# Altium footprint library ti-import.PcbLib: 50 footprints (part 3 of 4)
Each footprint in its own frame and in the unit in brackets; x right, y up, seen from the top. Pads: shape width x height; smd on the part's side, far side on the other; paste and mask are expansions set on the pad; w line width, h text height; cw(c..) or ccw(c..) is an arc to the next point about the centre after c.
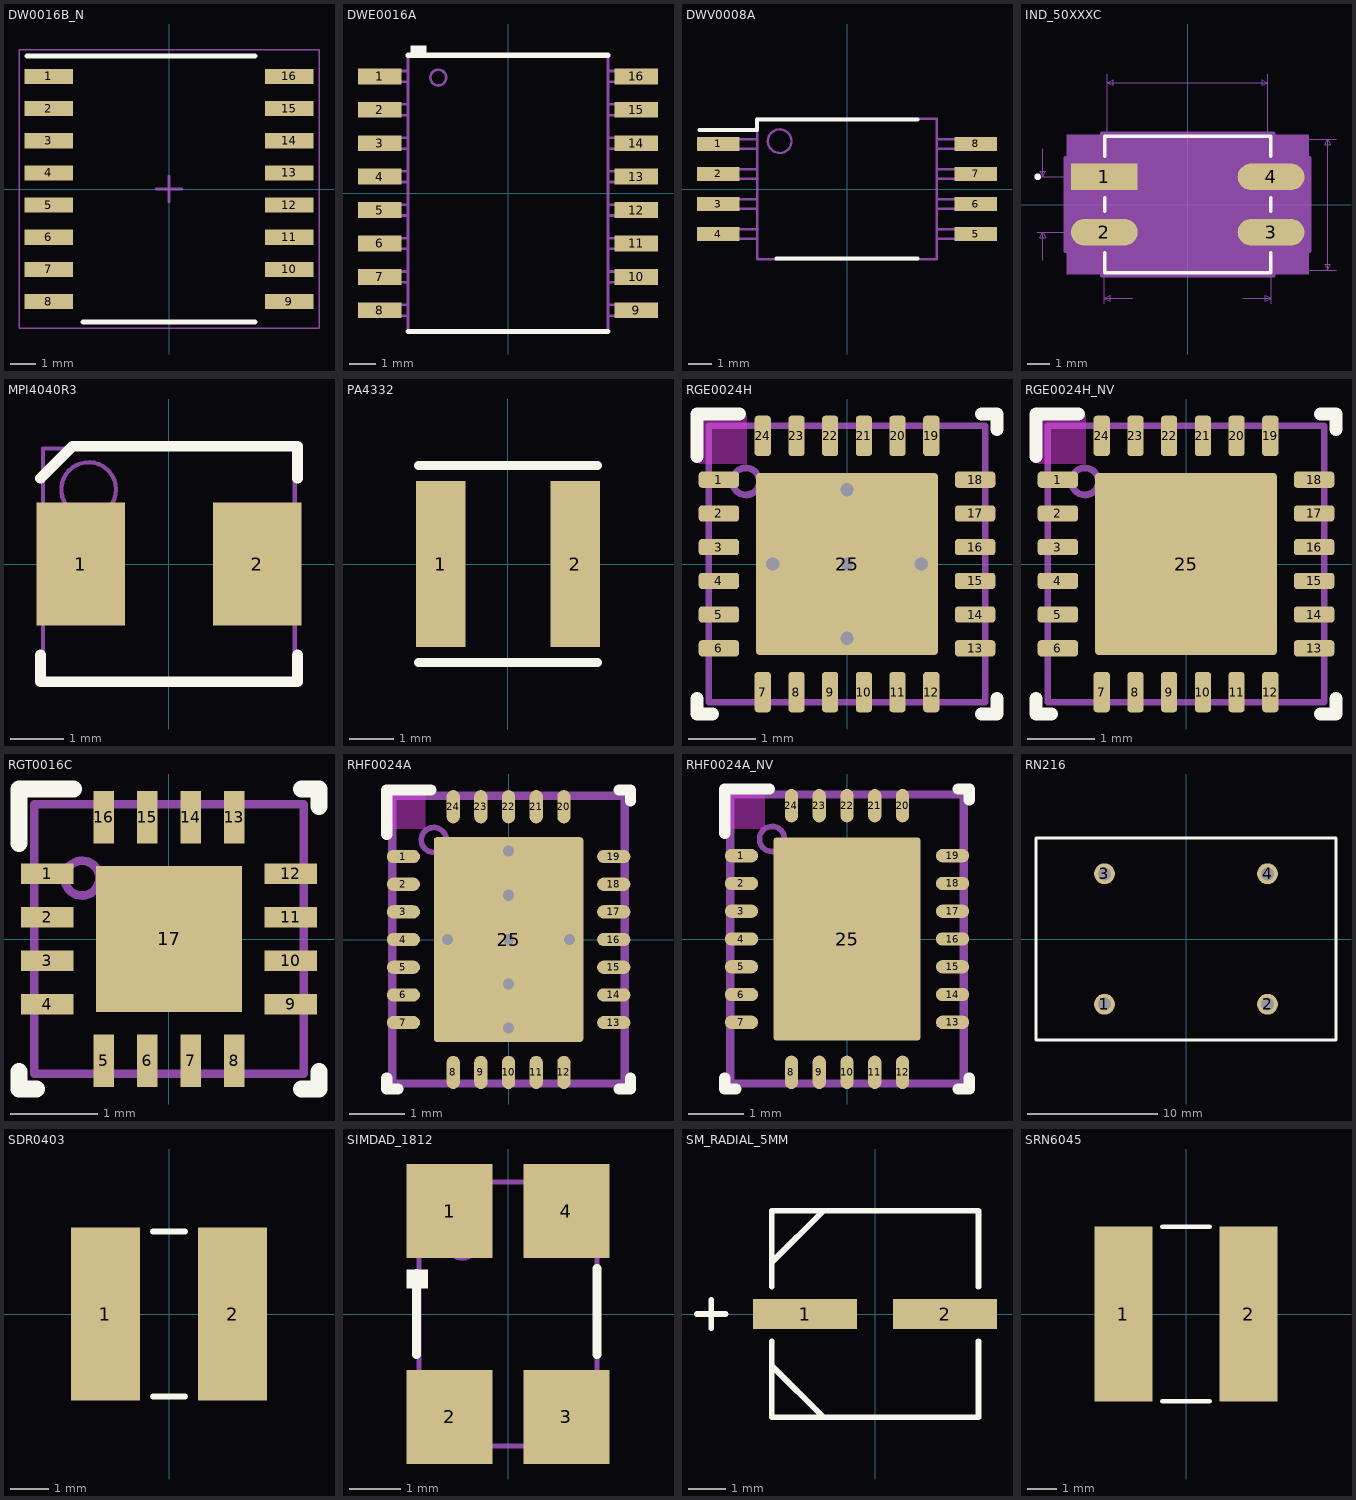
[diagram p2: the footprints below, top view; thin cyan lines are the x and y axes]

## DW0016B_N [mm]
pads (16):
  rect 1.9x0.6 smd paste+0 mask+0.051: 1(-4.75,4.445) 2(-4.75,3.175) 3(-4.75,1.905) 4(-4.75,0.635) 5(-4.75,-0.635) 6(-4.75,-1.905) 7(-4.75,-3.175) 8(-4.75,-4.445) 9(4.75,-4.445) 10(4.75,-3.175) 11(4.75,-1.905) 12(4.75,-0.635) 13(4.75,0.635) 14(4.75,1.905) 15(4.75,3.175) 16(4.75,4.445)
Top Overlay:
  lines w0.2: -5.6,5.25 3.4,5.25 ; -3.4,-5.25 3.4,-5.25
Mechanical 15:
  lines w0.05: -5.925,-5.5 5.925,-5.5 5.925,5.5 -5.925,5.5 -5.925,-5.5
  lines w0.1: -0.5,0 0.5,0 ; 0,-0.5 0,0.5
3D body "DW0016B.stp": height 2.59, standoff 0, extent -5.167,-5.15 5.168,5.15

## DWE0016A [mm]
pads (16):
  rect 1.65x0.6 smd paste+0 mask+0: 1(-4.875,4.445) 2(-4.875,3.175) 3(-4.875,1.905) 4(-4.875,0.635) 5(-4.875,-0.635) 6(-4.875,-1.905) 7(-4.875,-3.175) 8(-4.875,-4.445) 9(4.875,-4.445) 10(4.875,-3.175) 11(4.875,-1.905) 12(4.875,-0.635) 13(4.875,0.635) 14(4.875,1.905) 15(4.875,3.175) 16(4.875,4.445)
Top Overlay:
  region: -3.7,5.6 -3.7,5.35 -3.1,5.35 -3.1,5.6
  lines w0.2: -3.8,-5.25 3.8,-5.25 ; -3.8,5.25 3.8,5.25
Mechanical 13:
  circle w0.1: c-2.65,4.4 r0.3
  lines w0.1: -3.8,-4.65 -5.3,-4.65 -5.3,-4.24 -3.8,-4.24 ; -3.8,-3.38 -5.3,-3.38 -5.3,-2.97 -3.8,-2.97 ; -3.8,-2.11 -5.3,-2.11 -5.3,-1.7 -3.8,-1.7 ; -3.8,-0.84 -5.3,-0.84 -5.3,-0.43 -3.8,-0.43 ; -3.8,0.43 -5.3,0.43 -5.3,0.84 -3.8,0.84 ; -3.8,1.7 -5.3,1.7 -5.3,2.11 -3.8,2.11 ; -3.8,2.97 -5.3,2.97 -5.3,3.38 -3.8,3.38 ; -3.8,4.24 -5.3,4.24 -5.3,4.65 -3.8,4.65 ; 3.8,-4.65 5.3,-4.65 5.3,-4.24 3.8,-4.24 ; 3.8,-3.38 5.3,-3.38 5.3,-2.97 3.8,-2.97 ; 3.8,-2.11 5.3,-2.11 5.3,-1.7 3.8,-1.7 ; 3.8,-0.84 5.3,-0.84 5.3,-0.43 3.8,-0.43 ; 3.8,0.43 5.3,0.43 5.3,0.84 3.8,0.84 ; 3.8,1.7 5.3,1.7 5.3,2.11 3.8,2.11 ; 3.8,2.97 5.3,2.97 5.3,3.38 3.8,3.38 ; 3.8,4.24 5.3,4.24 5.3,4.65 3.8,4.65 ; -3.8,-5.25 3.8,-5.25 3.8,5.25 -3.8,5.25 -3.8,-5.25
3D body "DWE0016A.stp": height 2.59, standoff 0, extent -5.167,-5.15 5.167,5.15

## DWV0008A [mm]
pads (8):
  rect 1.8x0.6 smd paste+0 mask+0: 1(-5.45,1.905) 2(-5.45,0.635) 3(-5.45,-0.635) 4(-5.45,-1.905) 5(5.45,-1.905) 6(5.45,-0.635) 7(5.45,0.635) 8(5.45,1.905)
Top Overlay:
  lines w0.17: -6.25,2.5 -3.8,2.5 -3.8,2.95 2.975,2.95 ; -2.975,-2.95 2.975,-2.95
Mechanical 13:
  circle w0.1: c-2.85,2.025 r0.5
  lines w0.1: -3.805,-2.105 -5.8,-2.105 -5.8,-1.705 -3.805,-1.705 ; -3.805,-0.835 -5.8,-0.835 -5.8,-0.435 -3.805,-0.435 ; -3.805,0.435 -5.8,0.435 -5.8,0.835 -3.805,0.835 ; -3.805,1.705 -5.8,1.705 -5.8,2.105 -3.805,2.105 ; 3.805,-2.105 5.8,-2.105 5.8,-1.705 3.805,-1.705 ; 3.805,-0.835 5.8,-0.835 5.8,-0.435 3.805,-0.435 ; 3.805,0.435 5.8,0.435 5.8,0.835 3.805,0.835 ; 3.805,1.705 5.8,1.705 5.8,2.105 3.805,2.105 ; -3.8,-2.975 3.8,-2.975 3.8,2.975 -3.8,2.975 -3.8,-2.975
3D body "DWV0008A.stp": height 2.67, standoff -0.03, extent -5.768,-2.925 5.768,2.925

## IND_50XXXC [mil]
pads (4):
  rect 118x47 smd paste+0 mask+0: 1(-147.5,49)
  oval 118x47 smd paste+0 mask+0: 2(-147.5,-49) 3(147.5,-49) 4(147.5,49)
Top Overlay:
  circle w6: c-265.5,49 r3
  lines w6: -147,-85.6 -147,-121 147,-121 147,-85.6 ; -147,-12.4 -147,12.4 ; -147,85.6 -147,121 147,121 147,85.6 ; 147,-12.4 147,12.4
Mechanical 5:
  region: 214,-123.5 -214,-123.5 -214,123.5 214,123.5
Mechanical 7:
  lines w1: -266.5,-49 -147.5,-49 -147.5,-176 ; -266.5,49 -147.5,49 ; -256.5,-99 -256.5,-49 ; -256.5,99 -256.5,49 ; -142,116 -142,231 ; -97.5,-166 -147.5,-166 ; 97.5,-166 147.5,-166 ; 142,-116 262.5,-116 ; 142,231 142,116 262.5,116 ; 147.5,-176 147.5,-49 ; -256.5,-49 -261.5,-59 -251.5,-59 -256.5,-49 ; -256.5,49 -261.5,59 -251.5,59 -256.5,49 ; -147.5,-166 -137.5,-161 -137.5,-171 -147.5,-166 ; -142,216 -132,211 -132,221 -142,216 ; -142,216 142,216 ; 142,216 132,211 132,221 142,216 ; 147.5,-166 137.5,-161 137.5,-171 147.5,-166 ; 247.5,-116 252.5,-106 242.5,-106 247.5,-116 ; 247.5,-116 247.5,116 ; 247.5,116 252.5,106 242.5,106 247.5,116
  text "0.232in/5.893mm" at 267.5,-12.5 h25
  text "0.284in/7.214mm" at -93.75,236 h25
  text ".295in/7.493mm" at -87.5,-191 h25
  text ".098in/2.489mm" at -441.5,-12.5 h25
  text "Alt 2 Padstyle: b229_152h76" at -337.5,-616 h50
  text "Alt 1 Padstyle: b152_229h76" at -337.5,-556 h50
  text "Pin 1 Padstyle: r300_119" at -300,-376 h50
  text "Default Padstyle: b300_119" at -325,-316 h50
Mechanical 13:
  circle w0: c-132,49 r3
  lines w0: -12,116 ccw(c0,116) 12,116
  lines w1: -142,-116 -142,116 142,116 142,-116 -142,-116
Mechanical 15:
  region: -152,-82.5 -216.5,-82.5 -216.5,82.5 -152,82.5 -152,126 152,126 152,82.5 216.5,82.5 216.5,-82.5 152,-82.5 152,-126 -152,-126
  lines w6: -216.5,-82.5 -152,-82.5 -152,-126 152,-126 152,-82.5 216.5,-82.5 216.5,82.5 152,82.5 152,126 -152,126 -152,82.5 -216.5,82.5 -216.5,-82.5
3D body: height 10, standoff 0, extent 0,0 10,10
3D body "mps_mag_5000_smt_a.STEP": height 158.66, standoff 0, extent -181.1,-116.14 181.1,116.14

## MPI4040R3 [mm] "Coiltronics"
height 1.85
pads (2):
  rect 1.65x2.3 smd: 1(-1.65,0) 2(1.65,0)
Top Overlay:
  lines w0.2: -2.4,-1.7 -2.4,-2.2 2.4,-2.2 2.4,-1.7 ; -2.4,1.6 -1.8,2.2 -1.5,2.2 2.4,2.2 2.4,1.6
Mechanical 5:
  circle w0.08: c-1.5,1.39 r0.51
  lines w0.08: -2.35,-2.155 -2.35,2.155 2.35,2.155 2.35,-2.155 -2.35,-2.155
  text ".Designator" at 0.694,0.332 h0.8
3D body: height 1.85, standoff 0, extent -2.349,-2.154 2.349,2.154
3D body: height 1.86, standoff 1, extent -2.009,0.881 -0.991,1.899

## PA4332 [mm]
pads (2):
  rect 1.1x3.7 smd paste+0 mask+0.051: 1(-1.5,0) 2(1.5,0)
Top Overlay:
  lines w0.2: -2,-2.2 2,-2.2 ; -2,2.2 2,2.2
3D body: height 2, standoff 1.3, extent -2.1,-2.1 2.1,2.1
3D body: height 0.7, standoff 0, extent -2.1,-2.1 2.1,2.1
3D body: height 1.75, standoff 0.25, extent -2,-2 2,2

## RGE0024H [mm]
pads (25):
  rrect41% 0.6x0.24 smd paste+0 mask+0.051: 1(-1.9,1.25) 2(-1.9,0.75) 3(-1.9,0.25) 4(-1.9,-0.25) 5(-1.9,-0.75) 6(-1.9,-1.25) 13(1.9,-1.25) 14(1.9,-0.75) 15(1.9,-0.25) 16(1.9,0.25) 17(1.9,0.75) 18(1.9,1.25)
  rrect41% 0.24x0.6 smd paste+0 mask+0.051: 7(-1.25,-1.9) 8(-0.75,-1.9) 9(-0.25,-1.9) 10(0.25,-1.9) 11(0.75,-1.9) 12(1.25,-1.9) 19(1.25,1.9) 20(0.75,1.9) 21(0.25,1.9) 22(-0.25,1.9) 23(-0.75,1.9) 24(-1.25,1.9)
  rrect4% 2.7x2.7 smd paste-1.337 mask+0.051: 25(0,0)
via 1.1,0 diameter 0.5 hole 0.2
via 0,-1.1 diameter 0.5 hole 0.2
via -1.1,0 diameter 0.5 hole 0.2
via 0,1.1 diameter 0.5 hole 0.2
via 0,0 diameter 0.5 hole 0.2
Top Layer keep-out:
  rectangle: -2.2,1.48 -1.48,2.2
Top Overlay:
  lines w0.2: -2.225,-2 -2.225,-2.225 -2,-2.225 ; -2.225,1.6 -2.225,2.225 -1.6,2.225 ; 2,-2.225 2.225,-2.225 2.225,-2 ; 2,2.225 2.225,2.225 2.225,2
Top Paste:
  region: 0.101,0.138 0.1,0.148 0.1,1.242 0.101,1.252 0.104,1.261 0.108,1.269 0.114,1.276 0.121,1.282 0.129,1.286 0.138,1.289 0.148,1.29 1.242,1.29 1.252,1.289 1.261,1.286 1.269,1.282 1.276,1.276 1.282,1.269 1.286,1.261 1.289,1.252 1.29,1.242 1.29,0.148 1.289,0.138 1.286,0.129 1.282,0.121 1.276,0.114 1.269,0.108 1.261,0.104 1.252,0.101 1.242,0.1 0.148,0.1 0.138,0.101 0.129,0.104 0.121,0.108 0.114,0.114 0.108,0.121 0.104,0.129
  region: -0.101,1.252 -0.1,1.242 -0.1,0.148 -0.101,0.138 -0.104,0.129 -0.108,0.121 -0.114,0.114 -0.121,0.108 -0.129,0.104 -0.138,0.101 -0.148,0.1 -1.242,0.1 -1.252,0.101 -1.261,0.104 -1.269,0.108 -1.276,0.114 -1.282,0.121 -1.286,0.129 -1.289,0.138 -1.29,0.148 -1.29,1.242 -1.289,1.252 -1.286,1.261 -1.282,1.269 -1.276,1.276 -1.269,1.282 -1.261,1.286 -1.252,1.289 -1.242,1.29 -0.148,1.29 -0.138,1.289 -0.129,1.286 -0.121,1.282 -0.114,1.276 -0.108,1.269 -0.104,1.261
  region: -0.101,-0.138 -0.1,-0.148 -0.1,-1.242 -0.101,-1.252 -0.104,-1.261 -0.108,-1.269 -0.114,-1.276 -0.121,-1.282 -0.129,-1.286 -0.138,-1.289 -0.148,-1.29 -1.242,-1.29 -1.252,-1.289 -1.261,-1.286 -1.269,-1.282 -1.276,-1.276 -1.282,-1.269 -1.286,-1.261 -1.289,-1.252 -1.29,-1.242 -1.29,-0.148 -1.289,-0.138 -1.286,-0.129 -1.282,-0.121 -1.276,-0.114 -1.269,-0.108 -1.261,-0.104 -1.252,-0.101 -1.242,-0.1 -0.148,-0.1 -0.138,-0.101 -0.129,-0.104 -0.121,-0.108 -0.114,-0.114 -0.108,-0.121 -0.104,-0.129
  region: 0.101,-1.252 0.1,-1.242 0.1,-0.148 0.101,-0.138 0.104,-0.129 0.108,-0.121 0.114,-0.114 0.121,-0.108 0.129,-0.104 0.138,-0.101 0.148,-0.1 1.242,-0.1 1.252,-0.101 1.261,-0.104 1.269,-0.108 1.276,-0.114 1.282,-0.121 1.286,-0.129 1.289,-0.138 1.29,-0.148 1.29,-1.242 1.289,-1.252 1.286,-1.261 1.282,-1.269 1.276,-1.276 1.269,-1.282 1.261,-1.286 1.252,-1.289 1.242,-1.29 0.148,-1.29 0.138,-1.289 0.129,-1.286 0.121,-1.282 0.114,-1.276 0.108,-1.269 0.104,-1.261
Mechanical 13:
  circle w0.1: c-1.5,1.225 r0.2
  lines w0.1: -2.05,-2.05 2.05,-2.05 2.05,2.05 -2.05,2.05 -2.05,-2.05
3D body "RGE0024H.stp": height 1, standoff 0, extent -2,-2 2,2

## RGE0024H_NV [mm]
pads (25):
  rrect41% 0.6x0.24 smd paste+0 mask+0.051: 1(-1.9,1.25) 2(-1.9,0.75) 3(-1.9,0.25) 4(-1.9,-0.25) 5(-1.9,-0.75) 6(-1.9,-1.25) 13(1.9,-1.25) 14(1.9,-0.75) 15(1.9,-0.25) 16(1.9,0.25) 17(1.9,0.75) 18(1.9,1.25)
  rrect41% 0.24x0.6 smd paste+0 mask+0.051: 7(-1.25,-1.9) 8(-0.75,-1.9) 9(-0.25,-1.9) 10(0.25,-1.9) 11(0.75,-1.9) 12(1.25,-1.9) 19(1.25,1.9) 20(0.75,1.9) 21(0.25,1.9) 22(-0.25,1.9) 23(-0.75,1.9) 24(-1.25,1.9)
  rrect4% 2.7x2.7 smd paste-1.337 mask+0.051: 25(0,0)
Top Layer keep-out:
  rectangle: -2.2,1.48 -1.48,2.2
Top Overlay:
  lines w0.2: -2.225,-2 -2.225,-2.225 -2,-2.225 ; -2.225,1.6 -2.225,2.225 -1.6,2.225 ; 2,-2.225 2.225,-2.225 2.225,-2 ; 2,2.225 2.225,2.225 2.225,2
Top Paste:
  region: 0.101,0.138 0.1,0.148 0.1,1.242 0.101,1.252 0.104,1.261 0.108,1.269 0.114,1.276 0.121,1.282 0.129,1.286 0.138,1.289 0.148,1.29 1.242,1.29 1.252,1.289 1.261,1.286 1.269,1.282 1.276,1.276 1.282,1.269 1.286,1.261 1.289,1.252 1.29,1.242 1.29,0.148 1.289,0.138 1.286,0.129 1.282,0.121 1.276,0.114 1.269,0.108 1.261,0.104 1.252,0.101 1.242,0.1 0.148,0.1 0.138,0.101 0.129,0.104 0.121,0.108 0.114,0.114 0.108,0.121 0.104,0.129
  region: -0.101,1.252 -0.1,1.242 -0.1,0.148 -0.101,0.138 -0.104,0.129 -0.108,0.121 -0.114,0.114 -0.121,0.108 -0.129,0.104 -0.138,0.101 -0.148,0.1 -1.242,0.1 -1.252,0.101 -1.261,0.104 -1.269,0.108 -1.276,0.114 -1.282,0.121 -1.286,0.129 -1.289,0.138 -1.29,0.148 -1.29,1.242 -1.289,1.252 -1.286,1.261 -1.282,1.269 -1.276,1.276 -1.269,1.282 -1.261,1.286 -1.252,1.289 -1.242,1.29 -0.148,1.29 -0.138,1.289 -0.129,1.286 -0.121,1.282 -0.114,1.276 -0.108,1.269 -0.104,1.261
  region: -0.101,-0.138 -0.1,-0.148 -0.1,-1.242 -0.101,-1.252 -0.104,-1.261 -0.108,-1.269 -0.114,-1.276 -0.121,-1.282 -0.129,-1.286 -0.138,-1.289 -0.148,-1.29 -1.242,-1.29 -1.252,-1.289 -1.261,-1.286 -1.269,-1.282 -1.276,-1.276 -1.282,-1.269 -1.286,-1.261 -1.289,-1.252 -1.29,-1.242 -1.29,-0.148 -1.289,-0.138 -1.286,-0.129 -1.282,-0.121 -1.276,-0.114 -1.269,-0.108 -1.261,-0.104 -1.252,-0.101 -1.242,-0.1 -0.148,-0.1 -0.138,-0.101 -0.129,-0.104 -0.121,-0.108 -0.114,-0.114 -0.108,-0.121 -0.104,-0.129
  region: 0.101,-1.252 0.1,-1.242 0.1,-0.148 0.101,-0.138 0.104,-0.129 0.108,-0.121 0.114,-0.114 0.121,-0.108 0.129,-0.104 0.138,-0.101 0.148,-0.1 1.242,-0.1 1.252,-0.101 1.261,-0.104 1.269,-0.108 1.276,-0.114 1.282,-0.121 1.286,-0.129 1.289,-0.138 1.29,-0.148 1.29,-1.242 1.289,-1.252 1.286,-1.261 1.282,-1.269 1.276,-1.276 1.269,-1.282 1.261,-1.286 1.252,-1.289 1.242,-1.29 0.148,-1.29 0.138,-1.289 0.129,-1.286 0.121,-1.282 0.114,-1.276 0.108,-1.269 0.104,-1.261
Mechanical 13:
  circle w0.1: c-1.5,1.225 r0.2
  lines w0.1: -2.05,-2.05 2.05,-2.05 2.05,2.05 -2.05,2.05 -2.05,-2.05
3D body "RGE0024H.stp": height 1, standoff 0, extent -2,-2 2,2

## RGT0016C [mm]
pads (17):
  rect 0.6x0.24 smd paste+0 mask+0.051: 1(-1.4,0.75) 2(-1.4,0.25) 3(-1.4,-0.25) 4(-1.4,-0.75) 9(1.4,-0.75) 10(1.4,-0.25) 11(1.4,0.25) 12(1.4,0.75)
  rect 0.24x0.6 smd paste+0 mask+0.051: 5(-0.75,-1.4) 6(-0.25,-1.4) 7(0.25,-1.4) 8(0.75,-1.4) 13(0.75,1.4) 14(0.25,1.4) 15(-0.25,1.4) 16(-0.75,1.4)
  rect 1.68x1.68 smd paste-0.827 mask+0.051: 17(0,0)
Top Overlay:
  lines w0.2: -1.725,-1.525 -1.725,-1.725 -1.525,-1.725 ; -1.725,1.1 -1.725,1.725 -1.1,1.725 ; 1.525,-1.725 1.725,-1.725 1.725,-1.525 ; 1.525,1.725 1.725,1.725 1.725,1.525
Top Paste:
  region: -0.774,-0.738 -0.775,-0.728 -0.775,0.729 -0.774,0.738 -0.771,0.746 -0.767,0.754 -0.761,0.761 -0.754,0.767 -0.746,0.771 -0.738,0.774 -0.728,0.775 0.729,0.775 0.738,0.774 0.746,0.771 0.754,0.767 0.761,0.761 0.767,0.754 0.771,0.746 0.774,0.738 0.775,0.729 0.775,-0.728 0.774,-0.738 0.771,-0.746 0.767,-0.754 0.761,-0.761 0.754,-0.767 0.746,-0.771 0.738,-0.774 0.729,-0.775 -0.728,-0.775 -0.738,-0.774 -0.746,-0.771 -0.754,-0.767 -0.761,-0.761 -0.767,-0.754 -0.771,-0.746
Mechanical 13:
  circle w0.1: c-1,0.7 r0.2
  lines w0.1: -1.55,-1.55 1.55,-1.55 1.55,1.55 -1.55,1.55 -1.55,-1.55
3D body "RGT0016C.stp": height 1, standoff 0, extent -1.5,-1.5 1.5,1.5

## RHF0024A [mm]
pads (29):
  oval 0.6x0.24 smd paste+0 mask+0.051: 1(-1.9,1.5) 2(-1.9,1) 3(-1.9,0.5) 4(-1.9,0) 5(-1.9,-0.5) 6(-1.9,-1) 7(-1.9,-1.5) 13(1.9,-1.5) 14(1.9,-1) 15(1.9,-0.5) 16(1.9,0) 17(1.9,0.5) 18(1.9,1) 19(1.9,1.5)
  oval 0.24x0.6 smd paste+0 mask+0.051: 8(-1,-2.4) 9(-0.5,-2.4) 10(0,-2.4) 11(0.5,-2.4) 12(1,-2.4) 20(1,2.4) 21(0.5,2.4) 22(0,2.4) 23(-0.5,2.4) 24(-1,2.4)
  rrect4% 2.7x3.7 smd paste-1.837 mask+0.051: 25(0,0)
  rrect14% 1.118x1.584 on Top Paste: ""(-0.659,-0.892) ""(-0.659,0.892) ""(0.659,-0.892) ""(0.659,0.892)
via 1.1,0 diameter 0.5 hole 0.2
via 0,-1.6 diameter 0.5 hole 0.2
via 0,-0.8 diameter 0.5 hole 0.2
via -1.1,0 diameter 0.5 hole 0.2
via 0,1.6 diameter 0.5 hole 0.2
via 0,0.8 diameter 0.5 hole 0.2
via 0,0 diameter 0.5 hole 0.2
Top Layer keep-out:
  rectangle: -2.22,2 -1.5,2.72
Top Overlay:
  lines w0.2: -2.2,-2.5 -2.2,-2.7 -2,-2.7 ; -2.2,1.9 -2.2,2.7 -1.4,2.7 ; 2,-2.7 2.2,-2.7 2.2,-2.5 ; 2,2.7 2.2,2.7 2.2,2.5
Mechanical 13:
  circle w0.1: c-1.35,1.8 r0.225
  lines w0.1: -2.075,-2.575 -2.075,2.575 2.075,2.575 2.075,-2.575 -2.075,-2.575
Mechanical 15:
  lines w0.05: -2.15,-2.65 2.15,-2.65 2.15,2.65 -2.15,2.65 -2.15,-2.65
  lines w0.1: -0.5,0 0.5,0 ; 0,-0.5 0,0.5
3D body "RHF0024A.stp": height 1, standoff 0, extent -2,-2.5 2,2.5

## RHF0024A_NV [mm]
pads (25):
  oval 0.6x0.24 smd paste+0 mask+0.051: 1(-1.9,1.5) 2(-1.9,1) 3(-1.9,0.5) 4(-1.9,0) 5(-1.9,-0.5) 6(-1.9,-1) 7(-1.9,-1.5) 13(1.9,-1.5) 14(1.9,-1) 15(1.9,-0.5) 16(1.9,0) 17(1.9,0.5) 18(1.9,1) 19(1.9,1.5)
  oval 0.24x0.6 smd paste+0 mask+0.051: 8(-1,-2.4) 9(-0.5,-2.4) 10(0,-2.4) 11(0.5,-2.4) 12(1,-2.4) 20(1,2.4) 21(0.5,2.4) 22(0,2.4) 23(-0.5,2.4) 24(-1,2.4)
  rrect4% 2.65x3.65 smd paste-1.812 mask+0.051: 25(0,0)
Top Layer keep-out:
  rectangle: -2.2,1.98 -1.48,2.7
Top Overlay:
  lines w0.2: -2.2,-2.5 -2.2,-2.7 -2,-2.7 ; -2.2,1.9 -2.2,2.7 -1.4,2.7 ; 2,-2.7 2.2,-2.7 2.2,-2.5 ; 2,2.7 2.2,2.7 2.2,2.5
Top Paste:
  drawing of 6 lines, arcs and shapes, not listed
Mechanical 13:
  circle w0.1: c-1.35,1.8 r0.225
  lines w0.1: -2.075,-2.575 -2.075,2.575 2.075,2.575 2.075,-2.575 -2.075,-2.575
Mechanical 15:
  lines w0.05: -2.15,-2.65 2.15,-2.65 2.15,2.65 -2.15,2.65 -2.15,-2.65
  lines w0.1: -0.5,0 0.5,0 ; 0,-0.5 0,0.5
3D body "RHF0024A.stp": height 1, standoff 0, extent -2,-2.5 2,2.5

## RN216 [mm]
height 25
pads (4):
  round 1.6 hole 1 paste+0: 1(-6.25,-5) 2(6.25,-5) 3(-6.25,5) 4(6.25,5)
Top Overlay:
  lines w0.25: -11.5,-7.75 11.5,-7.75 11.5,7.75 -11.5,7.75 -11.5,-7.75
3D body: height 25, standoff 0, extent -11.5,-7.7 11.5,7.747
3D body: height 4.4, standoff 0, extent -11.43,7.747 -11.43,7.747

## SDR0403 [mil]
pads (2):
  rect 71x177 smd: 1(-65,0) 2(65,0)
Top Overlay:
  lines w6: -16.4,-84.5 16.4,-84.5 ; -16.4,84.5 16.4,84.5
3D body "SDR0403.stp": height 150, standoff 0, extent -106.5,-94.5 106.5,94.5

## SIMDAD_1812 [mm] "EPCOS"
height 3
pads (4):
  rect 1.7x1.85 smd: 1(-1.15,2.025) 2(-1.15,-2.025) 3(1.15,-2.025) 4(1.15,2.025)
Top Overlay:
  rectangle: -2,0.5 -1.575,0.875
  lines w0.17: -1.8,-0.8 -1.8,0.8 ; 1.75,-0.8 1.75,0.9
Mechanical 5:
  circle w0.1: c-0.9,1.4 r0.3
  lines w0.1: -1.75,-2.6 1.75,-2.6 1.75,2.6 -1.75,2.6 -1.75,-2.6
  text ".Designator" at -0.459,0.734 h0.9
3D body: height 3.01, standoff 2, extent -1.199,1.101 -0.601,1.699
3D body: height 3, standoff 0, extent -1.749,-2.599 1.749,2.599

## SM_RADIAL_5MM [mil]
pads (2):
  rect 109x31 smd: 1(-73.5,0) 2(73.5,0)
Top Overlay:
  lines w6: -187,0 -157,0 ; -172,-15 -172,15 ; -108.5,-54.25 -54.25,-108.5 ; -108.5,-28.6 -108.5,-108.5 108.5,-108.5 108.5,-28.6 ; -108.5,28.6 -108.5,108.5 108.5,108.5 108.5,28.6 ; -108.5,54.25 -54.25,108.5
3D body "SM_RADIAL_5MM.stp": height 238, standoff 0, extent -122,-108.5 122,108.5

## SRN6045 [mm]
pads (2):
  rect 2x6 smd: 1(-2.15,0) 2(2.15,0)
Top Overlay:
  lines w0.152: -0.817,-3 0.817,-3 ; -0.817,3 0.817,3
3D body "srn6045.stp": height 4.5, standoff 0, extent -3,-3 3,3